# Altium footprint library Eurobot_lib.PcbLib: 52 footprints (part 4 of 4)
Each footprint in its own frame and in the unit in brackets; x right, y up, seen from the top. Pads: shape width x height; smd on the part's side, far side on the other; paste and mask are expansions set on the pad; w line width, h text height; cw(c..) or ccw(c..) is an arc to the next point about the centre after c.
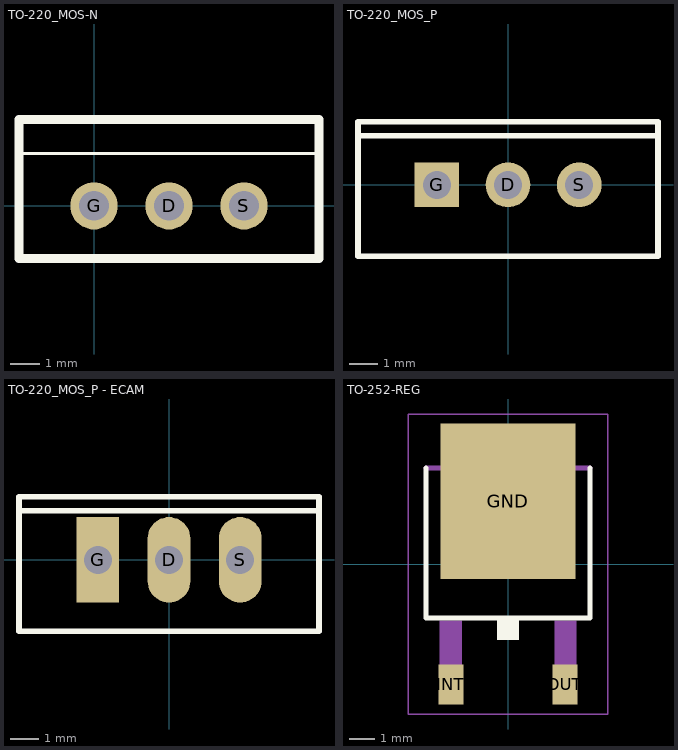
[diagram p3: the footprints below, top view; thin cyan lines are the x and y axes]

## TO-220_MOS-N [mm] "TO-220 Vertical"
height 20
pads (3):
  round 1.6 hole 1: D(2.54,0) G(0,0) S(5.08,0)
Top Overlay:
  lines w0.102: -2.54,1.778 7.62,1.778
  lines w0.305: -2.54,-1.778 -2.54,1.778 -2.54,2.921 7.62,2.921 7.62,1.778 7.62,-1.778 -2.54,-1.778

## TO-220_MOS_P [mm] "TO, Thru-Hole, Vertical, Heatsink Mounted; 3 In-Line Leads; Pitch 2.54 mm"
height 19.1
pads (3):
  round 1.6 hole 1: D(0,0) S(2.54,0)
  rect 1.6x1.6 hole 1: G(-2.54,0)
Top Overlay:
  lines w0.2: -5.35,1.75 5.35,1.75 ; -5.35,-2.55 -5.35,2.25 5.35,2.25 5.35,-2.55 -5.35,-2.55

## TO-220_MOS_P - ECAM [mil] "TO, Thru-Hole, Vertical, Heatsink Mounted; 3 In-Line Leads; Pitch 2.54 mm"
height 751.97
pads (3):
  oval 60x120 hole 39.37: D(0,0) S(100,0)
  rect 60x120 hole 39.37: G(-100,0)
Top Overlay:
  lines w7.87: -210.63,68.9 210.63,68.9 ; -210.63,-100.39 210.63,-100.39 210.63,88.58 -210.63,88.58 -210.63,-100.39

## TO-252-REG [mm]
pads (3):
  rect 5.4x6.2 smd: GND(0,2.5)
  rect 1x1.6 smd: INT(-2.28,-4.8) OUT(2.28,-4.8)
Top Overlay:
  region: -0.432,-2.261 0.432,-2.261 0.432,-3.025 -0.432,-3.025
  lines w0.203: -3.277,3.835 -3.277,-2.159 3.277,-2.159 3.277,3.835
Mechanical 4:
  region: -2.719,-2.261 -1.854,-2.261 -1.854,-5.159 -2.719,-5.159
  region: 1.858,-2.261 2.718,-2.261 2.718,-5.166 1.858,-5.166
  region: -2.565,3.937 -2.565,4.648 -2.108,5.105 2.108,5.105 2.565,4.648 2.565,3.937
  region: -2.719,-2.261 -1.854,-2.261 -1.854,-5.159 -2.719,-5.159
  region: 1.858,-2.261 2.718,-2.261 2.718,-5.166 1.858,-5.166
  region: -2.565,3.937 -2.565,4.648 -2.108,5.105 2.108,5.105 2.565,4.648 2.565,3.937
  lines w0.203: -2.565,3.937 -2.565,4.648 ; -2.565,3.937 2.565,3.937 ; -2.565,3.937 -2.565,4.648 ; -2.565,3.937 2.565,3.937 ; -2.565,4.648 -2.108,5.105 ; -2.565,4.648 -2.108,5.105 ; -2.108,5.105 2.108,5.105 ; -2.108,5.105 2.108,5.105 ; 2.108,5.105 2.565,4.648 ; 2.108,5.105 2.565,4.648 ; 2.565,3.937 2.565,4.648 ; 2.565,3.937 2.565,4.648 ; -3.277,3.835 3.277,3.835 -3.277,3.835
Mechanical 16:
  lines w0.051: -3.973,-5.983 3.973,-5.983 3.973,5.983 -3.973,5.983 -3.973,-5.983